# Altium footprint library SON100P320X250X100-8L.PcbLib: 1 footprints
Each footprint in its own frame and in the unit in brackets; x right, y up, seen from the top. Pads: shape width x height; smd on the part's side, far side on the other; paste and mask are expansions set on the pad; w line width, h text height; cw(c..) or ccw(c..) is an arc to the next point about the centre after c.
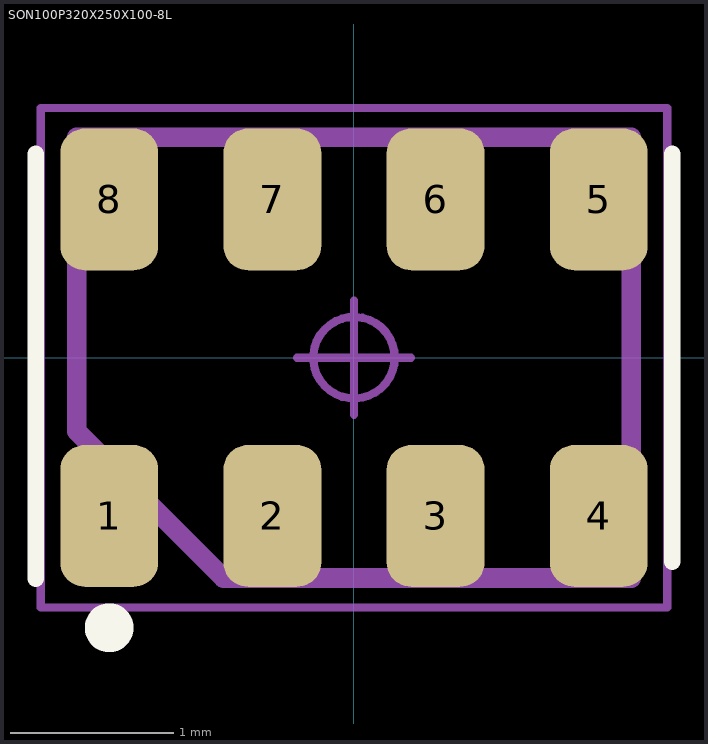
[diagram p0: the footprint, top view; thin cyan lines are the x and y axes]

## SON100P320X250X100-8L [mm] "Small Outline No-Lead (SON), 1.00 mm pitch; 8 pin, 3.20 mm L X 2.50 mm W X 1.00 mm H body"
height 1
pads (8):
  rrect50% 0.6x0.87 smd: 1(-1.5,-0.97) 2(-0.5,-0.97) 3(0.5,-0.97) 4(1.5,-0.97) 5(1.5,0.97) 6(0.5,0.97) 7(-0.5,0.97) 8(-1.5,0.97)
Top Overlay:
  circle w0.15: c-1.5,-1.655 r0.075
  lines w0.1: -1.95,-1.355 -1.95,1.25 ; 1.95,-1.25 1.95,1.25
Mechanical 11:
  lines w0.12: -1.7,-0.45 -1.7,1.35 1.7,1.35 1.7,-1.35 -0.8,-1.35 -1.7,-0.45
Mechanical 15:
  circle w0.05: c0,0 r0.25
  lines w0.05: -0.35,0 0.35,0 ; 0,-0.35 0,0.35 ; -1.92,-1.53 1.92,-1.53 1.92,-1.47 1.92,1.47 1.92,1.53 -1.92,1.53 -1.92,1.47 -1.92,-1.47 -1.92,-1.53
3D body: height 1.01, standoff 0.01, extent -1.6,-1.264 1.6,1.236